# EAGLE library part DSPIC33FJ256GP710-I/PF (library microchip_dspic)
TQFP TQFP-100 TQFP100 0.5mm PF dsPIC dsPIC33 dsPIC33F dsPIC33FJ64GP710 dsPIC33FJ128GP710 dsPIC33FJ256GP710
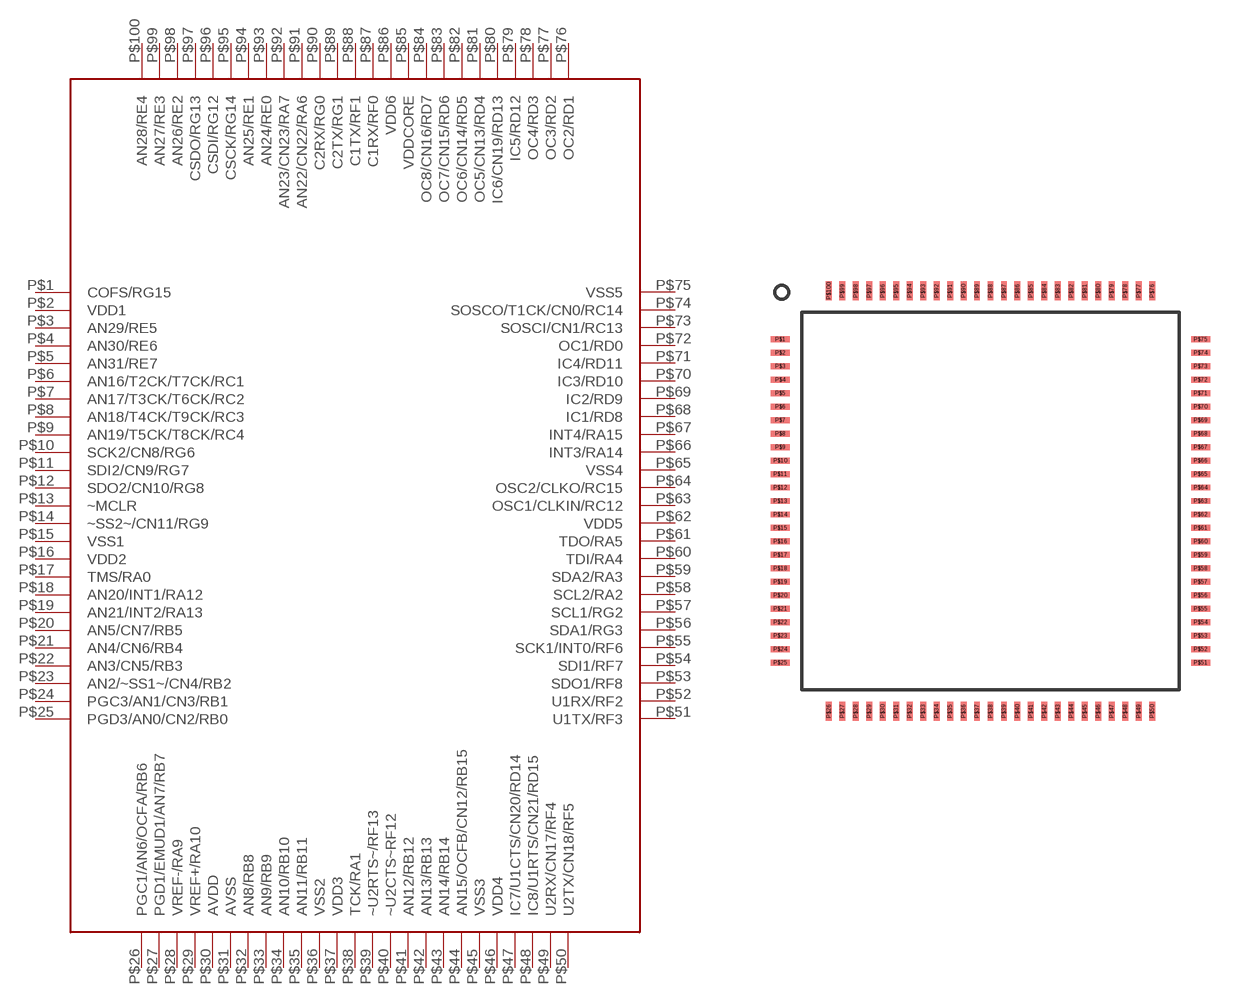
[diagram p0: symbol with the pads of TQFP-100_PF; footprint TQFP-100_PF]

Designator prefix -

## DSPIC33FJ256GP710-I/PF  [TQFP-100_PF]
P$1  COFS/RG15
P$2  VDD1
P$3  AN29/RE5
P$4  AN30/RE6
P$5  AN31/RE7
P$6  AN16/T2CK/T7CK/RC1
P$7  AN17/T3CK/T6CK/RC2
P$8  AN18/T4CK/T9CK/RC3
P$9  AN19/T5CK/T8CK/RC4
P$10  SCK2/CN8/RG6
P$11  SDI2/CN9/RG7
P$12  SDO2/CN10/RG8
P$13  ~MCLR
P$14  ~SS2~/CN11/RG9
P$15  VSS1
P$16  VDD2
P$17  TMS/RA0
P$18  AN20/INT1/RA12
P$19  AN21/INT2/RA13
P$20  AN5/CN7/RB5
P$21  AN4/CN6/RB4
P$22  AN3/CN5/RB3
P$23  AN2/~SS1~/CN4/RB2
P$24  PGC3/AN1/CN3/RB1
P$25  PGD3/AN0/CN2/RB0
P$26  PGC1/AN6/OCFA/RB6
P$27  PGD1/EMUD1/AN7/RB7
P$28  VREF-/RA9
P$29  VREF+/RA10
P$30  AVDD
P$31  AVSS
P$32  AN8/RB8
P$33  AN9/RB9
P$34  AN10/RB10
P$35  AN11/RB11
P$36  VSS2
P$37  VDD3
P$38  TCK/RA1
P$39  ~U2RTS~/RF13
P$40  ~U2CTS~RF12
P$41  AN12/RB12
P$42  AN13/RB13
P$43  AN14/RB14
P$44  AN15/OCFB/CN12/RB15
P$45  VSS3
P$46  VDD4
P$47  IC7/U1CTS/CN20/RD14
P$48  IC8/U1RTS/CN21/RD15
P$49  U2RX/CN17/RF4
P$50  U2TX/CN18/RF5
P$51  U1TX/RF3
P$52  U1RX/RF2
P$53  SDO1/RF8
P$54  SDI1/RF7
P$55  SCK1/INT0/RF6
P$56  SDA1/RG3
P$57  SCL1/RG2
P$58  SCL2/RA2
P$59  SDA2/RA3
P$60  TDI/RA4
P$61  TDO/RA5
P$62  VDD5
P$63  OSC1/CLKIN/RC12
P$64  OSC2/CLKO/RC15
P$65  VSS4
P$66  INT3/RA14
P$67  INT4/RA15
P$68  IC1/RD8
P$69  IC2/RD9
P$70  IC3/RD10
P$71  IC4/RD11
P$72  OC1/RD0
P$73  SOSCI/CN1/RC13
P$74  SOSCO/T1CK/CN0/RC14
P$75  VSS5
P$76  OC2/RD1
P$77  OC3/RD2
P$78  OC4/RD3
P$79  IC5/RD12
P$80  IC6/CN19/RD13
P$81  OC5/CN13/RD4
P$82  OC6/CN14/RD5
P$83  OC7/CN15/RD6
P$84  OC8/CN16/RD7
P$85  VDDCORE
P$86  VDD6
P$87  C1RX/RF0
P$88  C1TX/RF1
P$89  C2TX/RG1
P$90  C2RX/RG0
P$91  AN22/CN22/RA6
P$92  AN23/CN23/RA7
P$93  AN24/RE0
P$94  AN25/RE1
P$95  CSCK/RG14
P$96  CSDI/RG12
P$97  CSDO/RG13
P$98  AN26/RE2
P$99  AN27/RE3
P$100  AN28/RE4

## Footprint TQFP-100_PF (pad centres in mm)
TQFP-100 PF
smd 0.7 x 0.22: P$1 -7.8,6; P$2 -7.8,5.5; P$3 -7.8,5; P$4 -7.8,4.5; P$5 -7.8,4; P$6 -7.8,3.5; P$7 -7.8,3; P$8 -7.8,2.5; P$9 -7.8,2; P$10 -7.8,1.5; P$11 -7.8,1; P$12 -7.8,0.5; P$13 -7.8,0; P$14 -7.8,-0.5; P$15 -7.8,-1; P$16 -7.8,-1.5; P$17 -7.8,-2; P$18 -7.8,-2.5; P$19 -7.8,-3; P$20 -7.8,-3.5; P$21 -7.8,-4; P$22 -7.8,-4.5; P$23 -7.8,-5; P$24 -7.8,-5.5; P$25 -7.8,-6; P$51 7.8,-6; P$52 7.8,-5.5; P$53 7.8,-5; P$54 7.8,-4.5; P$55 7.8,-4; P$56 7.8,-3.5; P$57 7.8,-3; P$58 7.8,-2.5; P$59 7.8,-2; P$60 7.8,-1.5; P$61 7.8,-1; P$62 7.8,-0.5; P$63 7.8,0; P$64 7.8,0.5; P$65 7.8,1; P$66 7.8,1.5; P$67 7.8,2; P$68 7.8,2.5; P$69 7.8,3; P$70 7.8,3.5; P$71 7.8,4; P$72 7.8,4.5; P$73 7.8,5; P$74 7.8,5.5; P$75 7.8,6
smd 0.22 x 0.7: P$26 -6,-7.8; P$27 -5.5,-7.8; P$28 -5,-7.8; P$29 -4.5,-7.8; P$30 -4,-7.8; P$31 -3.5,-7.8; P$32 -3,-7.8; P$33 -2.5,-7.8; P$34 -2,-7.8; P$35 -1.5,-7.8; P$36 -1,-7.8; P$37 -0.5,-7.8; P$38 0,-7.8; P$39 0.5,-7.8; P$40 1,-7.8; P$41 1.5,-7.8; P$42 2,-7.8; P$43 2.5,-7.8; P$44 3,-7.8; P$45 3.5,-7.8; P$46 4,-7.8; P$47 4.5,-7.8; P$48 5,-7.8; P$49 5.5,-7.8; P$50 6,-7.8; P$76 6,7.8; P$77 5.5,7.8; P$78 5,7.8; P$79 4.5,7.8; P$80 4,7.8; P$81 3.5,7.8; P$82 3,7.8; P$83 2.5,7.8; P$84 2,7.8; P$85 1.5,7.8; P$86 1,7.8; P$87 0.5,7.8; P$88 0,7.8; P$89 -0.5,7.8; P$90 -1,7.8; P$91 -1.5,7.8; P$92 -2,7.8; P$93 -2.5,7.8; P$94 -3,7.8; P$95 -3.5,7.8; P$96 -4,7.8; P$97 -4.5,7.8; P$98 -5,7.8; P$99 -5.5,7.8; P$100 -6,7.8